# Altium schematic symbol library ECS-2520MV-250-CN-TR.SchLib: 1 symbol
Pins are listed as number, name and electrical type; pins without a type are passive.

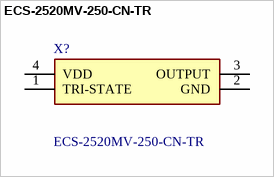
[diagram p0: symbol ECS-2520MV-250-CN-TR]

## ECS-2520MV-250-CN-TR
designator X?
Standard Clock Oscillators 25MHz 1.6-3.6V -40C +85C; Manufacturer_Name: ECS; Geometry.Height: 0.9mm; Manufacturer_Part_Number: ECS-2520MV-250-CN-TR; Mouser Part Number: 520-2520MV-250-CN-T; Mouser Price/Stock: https://www.mouser.co.uk/ProductDetail/ECS/ECS-2520MV-250-CN-TR?qs=fAHHVMwC%252BbiTva9uv8VI%2Fw%3D%3D; Arrow Part Number: ECS-2520MV-250-CN-TR; Arrow Price/Stock: https://www.arrow.com/en/products/ecs-2520mv-250-cn-tr/ecs-international?utm_currency=USD&region=nac; Datasheet Link: https://www.arrow.com/en/products/ecs-2520mv-250-cn-tr/ecs-international
footprint ECS2520MV250CNTR
pins: 1 TRI-STATE, 2 GND, 3 OUTPUT, 4 VDD